# EAGLE library part LTV847 (library optocoupler)
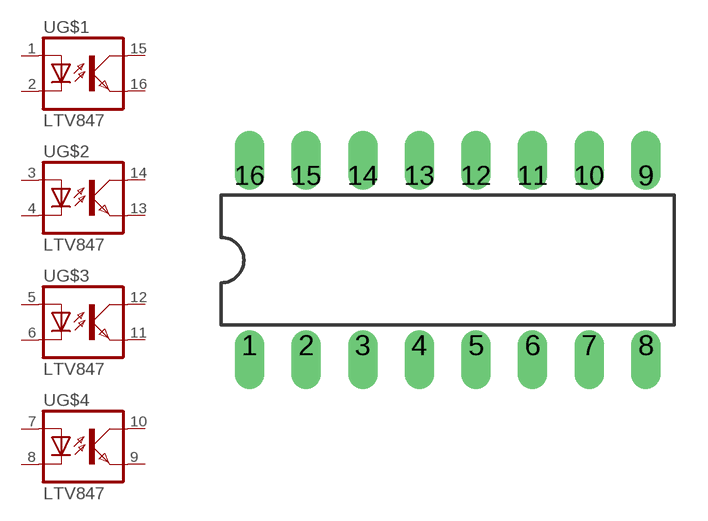
[diagram p46: symbol with the pads of DIL16; footprint DIL16]

Designator prefix -; gates G$1=OK G$2=OK G$3=OK G$4=OK

## LTV847  [DIL16]
1  G$1:A  pas
2  G$1:C  pas
3  G$2:A  pas
4  G$2:C  pas
5  G$3:A  pas
6  G$3:C  pas
7  G$4:A  pas
8  G$4:C  pas
9  G$4:EMIT  pas
10  G$4:COL  pas
11  G$3:EMIT  pas
12  G$3:COL  pas
13  G$2:EMIT  pas
14  G$2:COL  pas
15  G$1:COL  pas
16  G$1:EMIT  pas

## Footprint DIL16 (pad centres in mm)
Dual In Line Package
drill 0.813 offset: 1 -8.89,-3.81; 2 -6.35,-3.81; 3 -3.81,-3.81; 4 -1.27,-3.81; 5 1.27,-3.81; 6 3.81,-3.81; 7 6.35,-3.81; 8 8.89,-3.81; 9 8.89,3.81; 10 6.35,3.81; 11 3.81,3.81; 12 1.27,3.81; 13 -1.27,3.81; 14 -3.81,3.81; 15 -6.35,3.81; 16 -8.89,3.81